# Altium footprint library PcbLib1.PcbLib: 8 footprints
Each footprint in its own frame and in the unit in brackets; x right, y up, seen from the top. Pads: shape width x height; smd on the part's side, far side on the other; paste and mask are expansions set on the pad; w line width, h text height; cw(c..) or ccw(c..) is an arc to the next point about the centre after c.
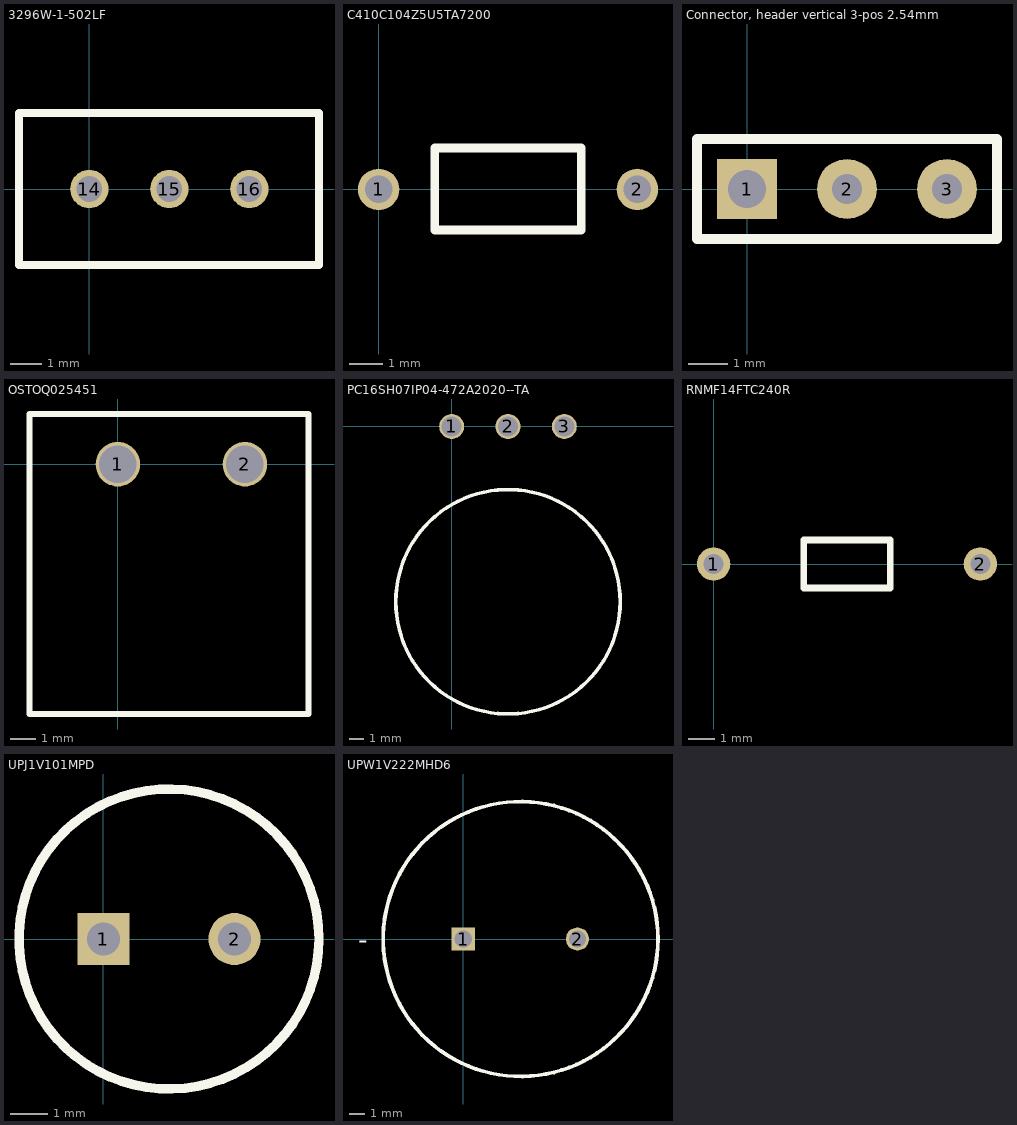
[diagram p0: the footprints below, top view; thin cyan lines are the x and y axes]

## 3296W-1-502LF [mil] "5 kOhms 0.5W, 1/2W PC Pins Through Hole Trimmer Potentiometer Cermet 25.0 Turn Top Adjustment"
pads (3):
  round 48 hole 32: 14(0,0) 15(100,0) 16(200,0)
Top Overlay:
  lines w10: -88,-95 287,-95 287,95 -88,95 -88,-95

## C410C104Z5U5TA7200 [mil] "0.1 µF -20%, +80% 50V Ceramic Capacitor Z5U Axialpp"
pads (2):
  round 48 hole 32: 1(0,0) 2(300,0)
Top Overlay:
  lines w10: 65,-47 235,-47 235,48 65,48 65,-47

## Connector, header vertical 3-pos 2.54mm [mil] "Connector, header vertical 3-pos 2.54mm, PRPC003SAAN-RC, Sullins Connector Solutions"
pads (3):
  rect 60x60 hole 38: 1(0,0)
  round 60 hole 30: 2(100,0) 3(200,0)
Top Overlay:
  lines w10: -50,-50 -50,50 250,50 250,-50 -50,-50

## OSTOQ025451 [mil] "Header"
pads (2):
  round 70 hole 59: 1(0,0) 2(200,0)
Top Overlay:
  lines w10: -139,-393 300,-393 300,79 -139,79 -139,-393

## PC16SH07IP04-472A2020--TA [mil] "POT 4.7K OHM 1/5W CARBON LINEAR"
pads (3):
  round 70 hole 56: 1(0,0) 2(158,0) 3(316,0)
Top Overlay:
  circle w10: c158,-492 r315

## RNMF14FTC240R [mil] "240 Ohm resistor, 1/4W, 1%"
pads (2):
  round 50 hole 30: 1(0,0) 2(400,0)
Top Overlay:
  lines w10: 135,-36 265,-36 ; 135,-35 135,35 ; 135,36 265,36 ; 265,-35 265,35

## UPJ1V101MPD [mil] "electrolytic capacitor, 100uF, 35v"
pads (2):
  rect 55x55 hole 35: 1(0,0)
  round 55 hole 35: 2(138,0)
Top Overlay:
  circle w10: c69,0 r158

## UPW1V222MHD6 [mil] "Radial Can ALUMINUM ELECTROLYTIC CAPACITOR UPW 35V 2200muF ±20% 0.709Dia 18.00mm"
pads (2):
  rect 60x60 hole 45: 1(0,0)
  round 60 hole 45: 2(295,0)
Top Overlay:
  circle w10: c148,0 r355
  text "-" at -272,-24.99 h50